# Altium schematic symbol library Diode SOD-123F.SchLib: 1 symbol
Pins are listed as number, name and electrical type; pins without a type are passive.

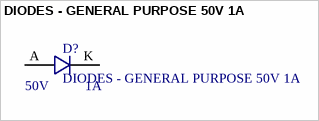
[diagram p0: symbol DIODES - GENERAL PURPOSE 50V 1A]

## DIODES - GENERAL PURPOSE 50V 1A
designator D?  Output Current: 1A  Voltage: 50V
DIODES - GENERAL PURPOSE 50V 1A 1.1V @ 1A SOD-123F ROHS; Manufacturer: Shikues; MFR.Part #: SK4001WA; LCSC Part #: C183406; Package: SOD-123; ComponentLink1Description: Datasheet; ComponentLink1URL: https://datasheet.lcsc.com/szlcsc/SK-SK4001WA_C183406.pdf
footprint PCBComponent_1
pins: A, K